# Altium schematic symbol library 0201ZK100GBSTR.SchLib: 2 symbols
Pins are listed as number, name and electrical type; pins without a type are passive.

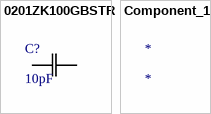
[diagram p0: symbols 0201ZK100GBSTR to Component_1]

## 0201ZK100GBSTR
designator C?, comment 10pF
CAP THIN FILM 10PF 10V 0201; Mfr_Name: KYOCERA AVX
footprint CAP_0201_AVX
pins: 1, 2

## Component_1
designator *